# Altium schematic symbol library EPO3-B1.SchLib: 17 symbols
Pins are listed as number, name and electrical type; pins without a type are passive.

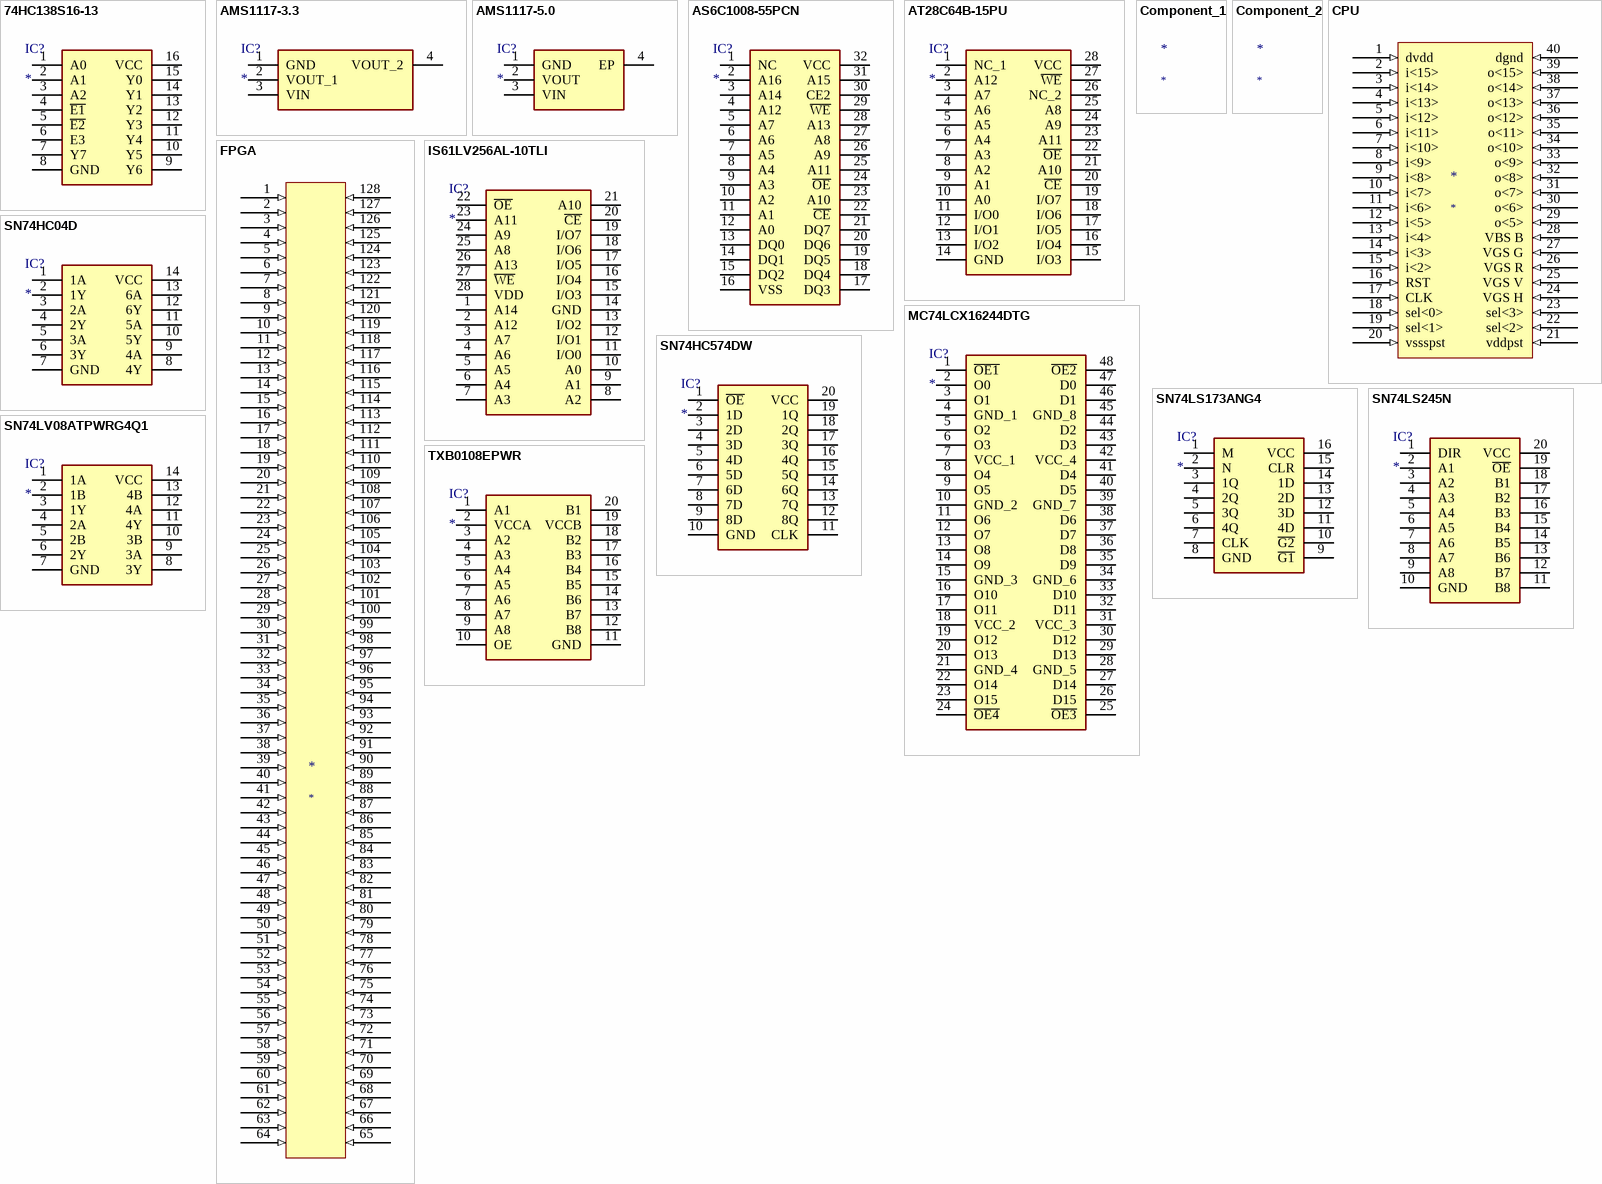
[diagram p0: symbols 74HC138S16-13 to TXB0108EPWR]

## 74HC138S16-13
designator IC?
Integrated Circuit; Manufacturer_Name: Diodes Inc.; Manufacturer_Part_Number: 74HC138S16-13; Datasheet Link: https://www.diodes.com/assets/Datasheets/74HC138.pdf; Height: 1.75mm; Mouser Part Number: 621-74HC138S16-13; Mouser Price/Stock: https://www.mouser.com/Search/Refine.aspx?Keyword=621-74HC138S16-13; Arrow Part Number: 74HC138S16-13; Arrow Price/Stock: https://www.arrow.com/en/products/74hc138s16-13/diodes-incorporated
footprint SOIC127P600X175-16N
pins: 1 A0, 2 A1, 3 A2, 4 ~{E1}, 5 ~{E2}, 6 E3, 7 Y7, 8 GND, 9 Y6, 10 Y5, 11 Y4, 12 Y3, 13 Y2, 14 Y1, 15 Y0, 16 VCC

## AMS1117-3.3
designator IC?
Integrated Circuit; Manufacturer_Name: Advanced Monolithic Systems; Manufacturer_Part_Number: AMS1117-3.3; Datasheet Link: http://www.advanced-monolithic.com/pdf/ds1117.pdf; Height: 1.8mm
footprint SOT229P700X180-4N
pins: 1 GND, 2 VOUT_1, 3 VIN, 4 VOUT_2

## AMS1117-5.0
designator IC?
Integrated Circuit; Manufacturer_Name: Shikues; Manufacturer_Part_Number: AMS1117-5.0; Datasheet Link: https://datasheet.lcsc.com/szlcsc/SK-AMS1117-5-0_C165483.pdf; Height: 1.8mm
footprint SOT290P700X180-4N
pins: 1 GND, 2 VOUT, 3 VIN, 4 EP

## AS6C1008-55PCN
designator IC?
Integrated Circuit; Manufacturer_Name: Alliance Memory; Manufacturer_Part_Number: AS6C1008-55PCN; Datasheet Link: http://componentsearchengine.com/Datasheets/1/AS6C1008-55PCN.pdf; Mouser Part Number: 913-AS6C1008-55PCN; Mouser Price/Stock: https://www.mouser.co.uk/ProductDetail/Alliance-Memory/AS6C1008-55PCN?qs=E5c5%252Bmu3i39qb4Qta5D2qg%3D%3D
footprint DIP254P1524X393-32
pins: 1 NC, 2 A16, 3 A14, 4 A12, 5 A7, 6 A6, 7 A5, 8 A4, 9 A3, 10 A2, 11 A1, 12 A0, 13 DQ0, 14 DQ1, 15 DQ2, 16 VSS, 17 DQ3, 18 DQ4, 19 DQ5, 20 DQ6, 21 DQ7, 22 ~{CE}, 23 A10, 24 ~{OE}, 25 A11, 26 A9, 27 A8, 28 A13, 29 ~{WE}, 30 CE2, 31 A15, 32 VCC

## AT28C64B-15PU
designator IC?
Integrated Circuit; Manufacturer_Name: Microchip; Manufacturer_Part_Number: AT28C64B-15PU; Datasheet Link: http://www.atmel.com/images/doc0270.pdf; Height: 4.826mm; Mouser Part Number: 556-AT28C64B15PU; Mouser Price/Stock: https://www.mouser.co.uk/ProductDetail/Microchip-Technology-Atmel/AT28C64B-15PU/?qs=2VKgqYuc3OvipbcAuBcLow%3D%3D; Arrow Part Number: AT28C64B-15PU; Arrow Price/Stock: https://www.arrow.com/en/products/at28c64b-15pu/microchip-technology
footprint DIP1556W56P254L3702H483Q28N
pins: 1 NC_1, 2 A12, 3 A7, 4 A6, 5 A5, 6 A4, 7 A3, 8 A2, 9 A1, 10 A0, 11 I/O0, 12 I/O1, 13 I/O2, 14 GND, 15 I/O3, 16 I/O4, 17 I/O5, 18 I/O6, 19 I/O7, 20 ~{CE}, 21 A10, 22 ~{OE}, 23 A11, 24 A9, 25 A8, 26 NC_2, 27 ~{WE}, 28 VCC

## Component_1
designator *

## Component_2
designator *

## CPU
designator *
footprint Processor
pins: 1 dvdd (in), 2 i<15> (in), 3 i<14> (in), 4 i<13> (in), 5 i<12> (in), 6 i<11> (in), 7 i<10> (in), 8 i<9> (in), 9 i<8> (in), 10 i<7> (in), 11 i<6> (in), 12 i<5> (in), 13 i<4> (in), 14 i<3> (in), 15 i<2> (in), 16 RST (in), 17 CLK (in), 18 sel<0> (in), 19 sel<1> (in), 20 vssspst (in), 21 vddpst (in), 22 sel<2> (in), 23 sel<3> (in), 24 VGS H (in), 25 VGS V (in), 26 VGS R (in), 27 VGS G (in), 28 VBS B (in), 29 o<5> (in), 30 o<6> (in), 31 o<7> (in), 32 o<8> (in), 33 o<9> (in), 34 o<10> (in), 35 o<11> (in), 36 o<12> (in), 37 o<13> (in), 38 o<14> (in), 39 o<15> (in), 40 dgnd (in)

## FPGA
designator *
footprint Cyclone_IV_EP4CE15
pins: 1 (in), 2 (in), 3 (in), 4 (in), 5 (in), 6 (in), 7 (in), 8 (in), 9 (in), 10 (in), 11 (in), 12 (in), 13 (in), 14 (in), 15 (in), 16 (in), 17 (in), 18 (in), 19 (in), 20 (in), 21 (in), 22 (in), 23 (in), 24 (in), 25 (in), 26 (in), 27 (in), 28 (in), 29 (in), 30 (in), 31 (in), 32 (in), 33 (in), 34 (in), 35 (in), 36 (in), 37 (in), 38 (in), 39 (in), 40 (in), 41 (in), 42 (in), 43 (in), 44 (in), 45 (in), 46 (in), 47 (in), 48 (in), 49 (in), 50 (in), 51 (in), 52 (in), 53 (in), 54 (in), 55 (in), 56 (in), 57 (in), 58 (in), 59 (in), 60 (in), 61 (in), 62 (in), 63 (in), 64 (in), 65 (in), 66 (in), 67 (in), 68 (in), 69 (in), 70 (in), 71 (in), 72 (in), 73 (in), 74 (in), 75 (in), 76 (in), 77 (in), 78 (in), 79 (in), 80 (in), 81 (in), 82 (in), 83 (in), 84 (in), 85 (in), 86 (in), 87 (in), 88 (in), 89 (in), 90 (in), 91 (in), 92 (in), 93 (in), 94 (in), 95 (in), 96 (in), 97 (in), 98 (in), 99 (in), 100 (in), 101 (in), 102 (in), 103 (in), 104 (in), 105 (in), 106 (in), 107 (in), 108 (in), 109 (in), 110 (in), 111 (in), 112 (in), 113 (in), 114 (in), 115 (in), 116 (in), 117 (in), 118 (in), 119 (in), 120 (in), 121 (in), 122 (in), 123 (in), 124 (in), 125 (in), 126 (in), 127 (in), 128 (in)

## IS61LV256AL-10TLI
designator IC?
Integrated Circuit; Manufacturer_Name: ISSI; Manufacturer_Part_Number: IS61LV256AL-10TLI; Description: SRAM 256K 32Kx8 10ns Async SRAM 3.3v; Datasheet Link: http://www.issi.com/WW/pdf/61LV256AL.pdf; Height: 1.2mm
footprint IS61LV256AL10TLI
pins: 1 A14, 2 A12, 3 A7, 4 A6, 5 A5, 6 A4, 7 A3, 8 A2, 9 A1, 10 A0, 11 I/O0, 12 I/O1, 13 I/O2, 14 GND, 15 I/O3, 16 I/O4, 17 I/O5, 18 I/O6, 19 I/O7, 20 ~{CE}, 21 A10, 22 ~{OE}, 23 A11, 24 A9, 25 A8, 26 A13, 27 ~{WE}, 28 VDD

## MC74LCX16244DTG
designator IC?
Integrated Circuit; Manufacturer_Name: ON Semiconductor; Manufacturer_Part_Number: MC74LCX16244DTG; Datasheet Link: http://www.onsemi.com/pub/Collateral/MC74LCX16244-D.PDF; Height: 1.1mm; Mouser Part Number: 863-MC74LCX16244DTG; Mouser Price/Stock: https://www.mouser.com/Search/Refine.aspx?Keyword=863-MC74LCX16244DTG; Arrow Part Number: MC74LCX16244DTG; Arrow Price/Stock: https://www.arrow.com/en/products/mc74lcx16244dtg/on-semiconductor
footprint SOP50P810X110-48N
pins: 1 ~{OE1}, 2 O0, 3 O1, 4 GND_1 (power), 5 O2, 6 O3, 7 VCC_1 (power), 8 O4, 9 O5, 10 GND_2 (power), 11 O6, 12 O7, 13 O8, 14 O9, 15 GND_3 (power), 16 O10, 17 O11, 18 VCC_2 (power), 19 O12, 20 O13, 21 GND_4 (power), 22 O14, 23 O15, 24 ~{OE4}, 25 ~{OE3}, 26 D15, 27 D14, 28 GND_5 (power), 29 D13, 30 D12, 31 VCC_3 (power), 32 D11, 33 D10, 34 GND_6 (power), 35 D9, 36 D8, 37 D7, 38 D6, 39 GND_7 (power), 40 D5, 41 D4, 42 VCC_4 (power), 43 D3, 44 D2, 45 GND_8 (power), 46 D1, 47 D0, 48 ~{OE2}

## SN74HC04D
designator IC?
Integrated Circuit; Manufacturer_Name: Texas Instruments; Manufacturer_Part_Number: SN74HC04D; Datasheet Link: http://www.ti.com/lit/ds/symlink/sn74hc04.pdf?HQS=TI-null-null-digikeymode-df-pf-null-wwe&ts=1590985263778; Height: 1.75mm; Mouser Part Number: 595-SN74HC04D; Mouser Price/Stock: https://www.mouser.co.uk/ProductDetail/Texas-Instruments/SN74HC04D/?qs=L5CvrNUdZiq5DddJvhoqZw%3D%3D; Arrow Part Number: SN74HC04D; Arrow Price/Stock: https://www.arrow.com/en/products/sn74hc04d/texas-instruments
footprint SOIC127P600X175-14N
pins: 1 1A, 2 1Y, 3 2A, 4 2Y, 5 3A, 6 3Y, 7 GND, 8 4Y, 9 4A, 10 5Y, 11 5A, 12 6Y, 13 6A, 14 VCC

## SN74HC574DW
designator IC?
Integrated Circuit; Manufacturer_Name: Texas Instruments; Manufacturer_Part_Number: SN74HC574DW; Datasheet Link: http://www.ti.com/lit/gpn/sn74hc574; Height: 2.65mm; Mouser Part Number: 595-SN74HC574DW; Mouser Price/Stock: https://www.mouser.co.uk/ProductDetail/Texas-Instruments/SN74HC574DW/?qs=Tv815z3GeNTmteRPNuq6hQ%3D%3D; Arrow Part Number: SN74HC574DW; Arrow Price/Stock: https://www.arrow.com/en/products/sn74hc574dw/texas-instruments
footprint SOIC127P1030X265-20N
pins: 1 ~{OE}, 2 1D, 3 2D, 4 3D, 5 4D, 6 5D, 7 6D, 8 7D, 9 8D, 10 GND, 11 CLK, 12 8Q, 13 7Q, 14 6Q, 15 5Q, 16 4Q, 17 3Q, 18 2Q, 19 1Q, 20 VCC

## SN74LS173ANG4
designator IC?
Integrated Circuit; Manufacturer_Name: Texas Instruments; Manufacturer_Part_Number: SN74LS173ANG4; Datasheet Link: http://www.ti.com/lit/ds/symlink/sn74ls173a.pdf; Height: 5.08mm
footprint DIP794W53P254L1930H508Q16N
pins: 1 M, 2 N, 3 1Q, 4 2Q, 5 3Q, 6 4Q, 7 CLK, 8 GND, 9 ~{G1}, 10 ~{G2}, 11 4D, 12 3D, 13 2D, 14 1D, 15 CLR, 16 VCC

## SN74LS245N
designator IC?
Integrated Circuit; Manufacturer_Name: Texas Instruments; Manufacturer_Part_Number: SN74LS245N; Datasheet Link: http://componentsearchengine.com/Datasheets/1/SN74LS245N.pdf; Height: 5.08mm; Mouser Part Number: 595-SN74LS245N; Mouser Price/Stock: https://www.mouser.co.uk/ProductDetail/Texas-Instruments/SN74LS245N/?qs=tJ5HNKWh3OU3CUIGSPX6%2Fg%3D%3D; Arrow Part Number: SN74LS245N; Arrow Price/Stock: https://www.arrow.com/en/products/sn74ls245n/texas-instruments
footprint DIP794W53P254L2540H508Q20N
pins: 1 DIR, 2 A1, 3 A2, 4 A3, 5 A4, 6 A5, 7 A6, 8 A7, 9 A8, 10 GND, 11 B8, 12 B7, 13 B6, 14 B5, 15 B4, 16 B3, 17 B2, 18 B1, 19 ~{OE}, 20 VCC

## SN74LV08ATPWRG4Q1
designator IC?
Integrated Circuit; Manufacturer_Name: Texas Instruments; Manufacturer_Part_Number: SN74LV08ATPWRG4Q1; Datasheet Link: http://www.ti.com/lit/gpn/sn74lv08a-q1; Height: 1.2mm; Mouser Part Number: 595-N74LV08ATPWRG4Q1; Mouser Price/Stock: https://www.mouser.co.uk/ProductDetail/Texas-Instruments/SN74LV08ATPWRG4Q1?qs=6kmNHVaEmPjTMqWga%2F%252BS6w%3D%3D; Arrow Part Number: SN74LV08ATPWRG4Q1; Arrow Price/Stock: https://www.arrow.com/en/products/sn74lv08atpwrg4q1/texas-instruments
footprint SOP65P640X120-14N
pins: 1 1A, 2 1B, 3 1Y, 4 2A, 5 2B, 6 2Y, 7 GND, 8 3Y, 9 3A, 10 3B, 11 4Y, 12 4A, 13 4B, 14 VCC

## TXB0108EPWR
designator IC?
Integrated Circuit; Manufacturer_Name: Texas Instruments; Manufacturer_Part_Number: TXB0108EPWR; Datasheet Link: http://www.ti.com/lit/ds/symlink/txb0108.pdf; Height: 1.2mm
footprint SOP65P640X120-20N
pins: 1 A1, 2 VCCA, 3 A2, 4 A3, 5 A4, 6 A5, 7 A6, 8 A7, 9 A8, 10 OE, 11 GND, 12 B8, 13 B7, 14 B6, 15 B5, 16 B4, 17 B3, 18 B2, 19 VCCB, 20 B1